# Altium footprint library Generic_Pads.PcbLib: 4 footprints
Each footprint in its own frame and in the unit in brackets; x right, y up, seen from the top. Pads: shape width x height; smd on the part's side, far side on the other; paste and mask are expansions set on the pad; w line width, h text height; cw(c..) or ccw(c..) is an arc to the next point about the centre after c.
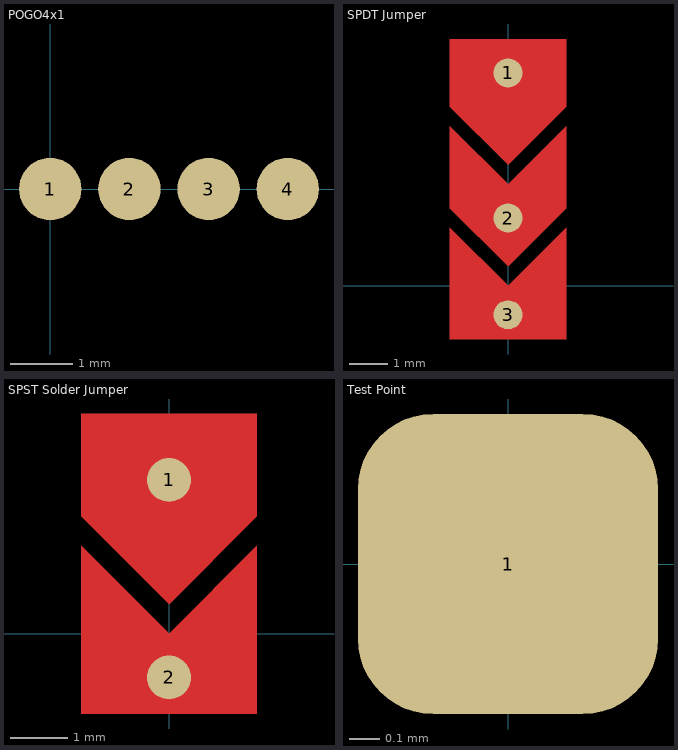
[diagram p0: the footprints below, top view; thin cyan lines are the x and y axes]

## POGO4x1 [mm]
pads (4):
  round 1 smd mask+0: 1(0,0) 2(1.27,0) 3(2.54,0) 4(3.81,0)

## SPDT Jumper [mil]
pads (3):
  round 30 smd: 1(0,220) 2(0,70) 3(0,-30)
Top Layer:
  region: 0,0 -60,60 -60,-55 0,-55 60,-55 60,60
  region: 0,105 -60,165 -60,80 0,20 60,80 60,165
  region: 0,255 -60,255 -60,185 0,125 60,185 60,255

## SPST Solder Jumper [mil]
pads (2):
  round 30 smd: 1(0,105) 2(0,-30)
Top Layer:
  region: 0,150 -60,150 -60,80 0,20 60,80 60,150
  region: 0,0 -60,60 -60,-55 0,-55 60,-55 60,60

## Test Point [mm]
pads (1):
  rrect50% 1x1 / inner rrect60% 0x0 / far side rrect60% 0x0 all layers, no hole: 1(0,0)